# Altium schematic symbol library LED_Boards.SchLib: 1 symbol
Pins are listed as number, name and electrical type; pins without a type are passive.

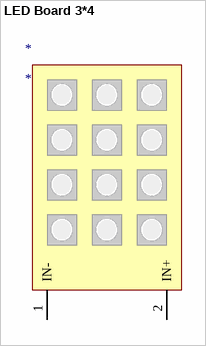
[diagram p0: symbol LED Board 3*4]

## LED Board 3*4
designator *
pins: 1 IN-, 2 IN+